# EAGLE library part CONNECTOR-22 (library HyTechDevices - Copy)
22 Pin Connector
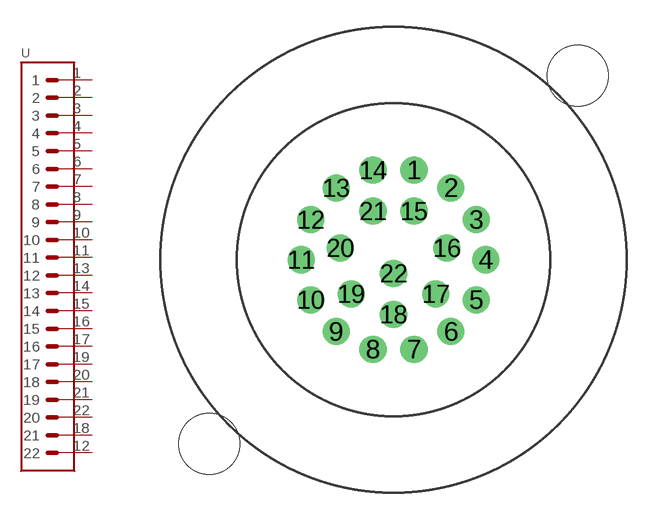
[diagram p21: symbol with the pads of SOURIAU_12-35; footprint SOURIAU_12-35]

Designator prefix -

## CONNECTOR-22 (PINS: 22)  [SOURIAU_12-35]
1  1  pas
2  2  pas
3  3  pas
4  4  pas
5  5  pas
6  6  pas
7  7  pas
8  8  pas
9  9  pas
10  10  pas
11  11  pas
12  22  pas
13  12  pas
14  13  pas
15  14  pas
16  15  pas
17  16  pas
18  21  pas
19  17  pas
20  18  pas
21  19  pas
22  20  pas

## Footprint SOURIAU_12-35 (pad centres in mm)
SOURIAU 22 PIN Footprint <https://www.te.com/commerce/DocumentDelivery/DDEController?Action=srchrtrv&DocNm=1-1773721-9_as_technical&DocType=DS&DocLang=EN>
drill 1: 1 1.143,5.004; 2 3.2,4.013; 3 4.623,2.235; 4 5.156,0; 5 4.623,-2.235; 6 3.2,-4.013; 7 1.143,-5.004; 8 -1.143,-5.004; 9 -3.2,-4.013; 10 -4.623,-2.235; 11 -5.156,0; 12 -4.623,2.235; 13 -3.2,4.013; 14 -1.143,5.004; 15 1.143,2.718; 16 2.972,0.66; 17 2.362,-1.905; 18 0,-3.048; 19 -2.362,-1.905; 20 -2.972,0.66; 21 -1.143,2.718; 22 0,-0.762
hole 3.4 at -10.288,-10.288
hole 3.4 at 10.288,10.288